# Altium integrated library WE-SPC (rev22d).IntLib: 53 symbols
Pins are listed as number, name and electrical type; pins without a type are passive.

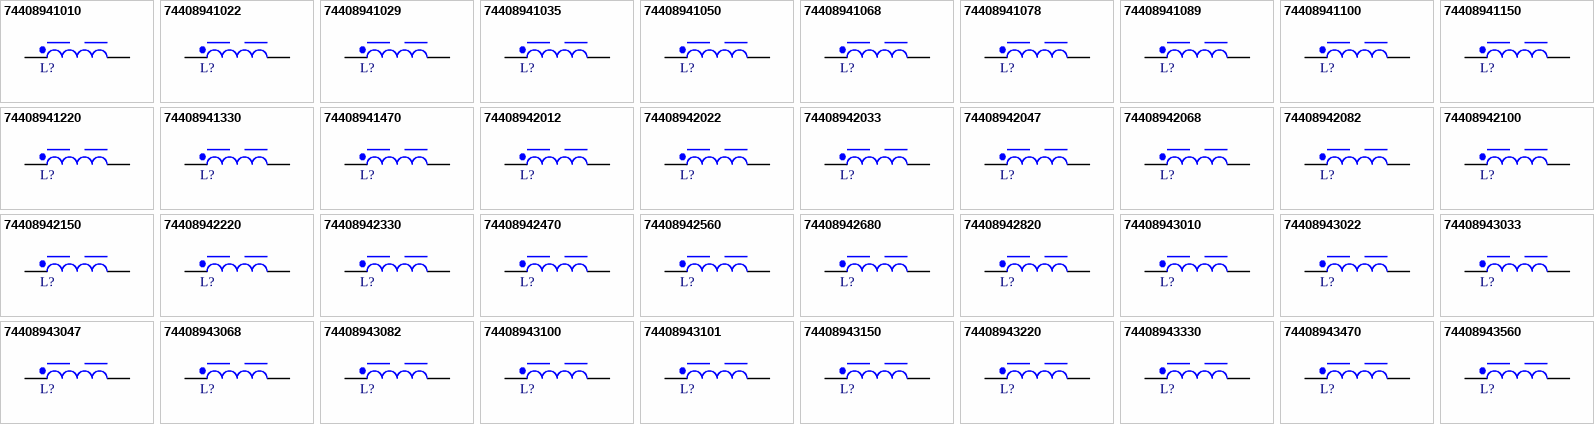
[diagram p0: symbols 74408941010 to 74408943560]

## 74408941010
designator L?, comment 1µH, 3A  (value not drawn)
WE-SPC SMT Power Inductor, size 4818, 1µH, 3A, 0.0295Ω; Manufacturer Part Number: 74408941010; Manufacturer: Wurth Elektronik; Case/Size Code: 4818; DC Resistance: 0.025Ω; Saturation Current: 5.4A; Self Resonant Frequency: 100MHz; Category: Shielded Power Inductors; Match Code: WE-SPC; ComponentLink1Description: Website Link; ComponentLink1URL: https://www.we-online.com/redexpert/article/74408941010?ad; ComponentLink2Description: Datasheet Link; ComponentLink2URL: https://www.we-online.com/redexpert/spec/74408941010?ad; Mount: Surface Mount; Operating Temperature Max: 125°C; Operating Temperature Min: -40°C; Packaging: Tape and Reel; Length: 4.8mm; Width: 4.8mm; Height: 1.8mm; DC Resistance Max: 0.0295Ω; Inductance: 1µH; Rated Current: 3A
footprint WE-SPC_4818
simulation model 4818_74408941010_1u
pins: 1, 2

## 74408941022
designator L?, comment 2.2µH, 2.1A  (value not drawn)
WE-SPC SMT Power Inductor, size 4818, 2.2µH, 2.1A, 0.066Ω; Manufacturer Part Number: 74408941022; Manufacturer: Wurth Elektronik; Case/Size Code: 4818; DC Resistance: 0.056Ω; Saturation Current: 3.6A; Self Resonant Frequency: 65MHz; Category: Shielded Power Inductors; Match Code: WE-SPC; ComponentLink1Description: Website Link; ComponentLink1URL: https://www.we-online.com/redexpert/article/74408941022?ad; ComponentLink2Description: Datasheet Link; ComponentLink2URL: https://www.we-online.com/redexpert/spec/74408941022?ad; Mount: Surface Mount; Operating Temperature Max: 125°C; Operating Temperature Min: -40°C; Packaging: Tape and Reel; Length: 4.8mm; Width: 4.8mm; Height: 1.8mm; DC Resistance Max: 0.066Ω; Inductance: 2.2µH; Rated Current: 2.1A
footprint WE-SPC_4818
simulation model 4818_74408941022_2.2u
pins: 1, 2

## 74408941029
designator L?, comment 2.9µH, 1.55A  (value not drawn)
WE-SPC SMT Power Inductor, size 4818, 2.9µH, 1.55A, 0.101Ω; Manufacturer Part Number: 74408941029; Manufacturer: Wurth Elektronik; Case/Size Code: 4818; DC Resistance: 0.085Ω; Saturation Current: 3A; Self Resonant Frequency: 55MHz; Category: Shielded Power Inductors; Match Code: WE-SPC; ComponentLink1Description: Website Link; ComponentLink1URL: https://www.we-online.com/redexpert/article/74408941029?ad; ComponentLink2Description: Datasheet Link; ComponentLink2URL: https://www.we-online.com/redexpert/spec/74408941029?ad; Mount: Surface Mount; Operating Temperature Max: 125°C; Operating Temperature Min: -40°C; Packaging: Tape and Reel; Length: 4.8mm; Width: 4.8mm; Height: 1.8mm; DC Resistance Max: 0.101Ω; Inductance: 2.9µH; Rated Current: 1.55A
footprint WE-SPC_4818
simulation model 4818_74408941029_2.9u
pins: 1, 2

## 74408941035
designator L?, comment 3.5µH, 1.5A  (value not drawn)
WE-SPC SMT Power Inductor, size 4818, 3.5µH, 1.5A, 0.113Ω; Manufacturer Part Number: 74408941035; Manufacturer: Wurth Elektronik; Case/Size Code: 4818; DC Resistance: 0.095Ω; Saturation Current: 2.8A; Self Resonant Frequency: 52MHz; Category: Shielded Power Inductors; Match Code: WE-SPC; ComponentLink1Description: Website Link; ComponentLink1URL: https://www.we-online.com/redexpert/article/74408941035?ad; ComponentLink2Description: Datasheet Link; ComponentLink2URL: https://www.we-online.com/redexpert/spec/74408941035?ad; Mount: Surface Mount; Operating Temperature Max: 125°C; Operating Temperature Min: -40°C; Packaging: Tape and Reel; Length: 4.8mm; Width: 4.8mm; Height: 1.8mm; DC Resistance Max: 0.113Ω; Inductance: 3.5µH; Rated Current: 1.5A
footprint WE-SPC_4818
simulation model 4818_74408941035_3.5u
pins: 1, 2

## 74408941050
designator L?, comment 5µH, 1.4A  (value not drawn)
WE-SPC SMT Power Inductor, size 4818, 5µH, 1.4A, 0.14Ω; Manufacturer Part Number: 74408941050; Manufacturer: Wurth Elektronik; Case/Size Code: 4818; DC Resistance: 0.117Ω; Saturation Current: 2.5A; Self Resonant Frequency: 43MHz; Category: Shielded Power Inductors; Match Code: WE-SPC; ComponentLink1Description: Website Link; ComponentLink1URL: https://www.we-online.com/redexpert/article/74408941050?ad; ComponentLink2Description: Datasheet Link; ComponentLink2URL: https://www.we-online.com/redexpert/spec/74408941050?ad; Mount: Surface Mount; Operating Temperature Max: 125°C; Operating Temperature Min: -40°C; Packaging: Tape and Reel; Length: 4.8mm; Width: 4.8mm; Height: 1.8mm; DC Resistance Max: 0.14Ω; Inductance: 5µH; Rated Current: 1.4A
footprint WE-SPC_4818
simulation model 4818_74408941050_5u
pins: 1, 2

## 74408941068
designator L?, comment 6.8µH, 1.1A  (value not drawn)
WE-SPC SMT Power Inductor, size 4818, 6.8µH, 1.1A, 0.19Ω; Manufacturer Part Number: 74408941068; Manufacturer: Wurth Elektronik; Case/Size Code: 4818; DC Resistance: 0.16Ω; Saturation Current: 2.1A; Self Resonant Frequency: 40MHz; Category: Shielded Power Inductors; Match Code: WE-SPC; ComponentLink1Description: Website Link; ComponentLink1URL: https://www.we-online.com/redexpert/article/74408941068?ad; ComponentLink2Description: Datasheet Link; ComponentLink2URL: https://www.we-online.com/redexpert/spec/74408941068?ad; Mount: Surface Mount; Operating Temperature Max: 125°C; Operating Temperature Min: -40°C; Packaging: Tape and Reel; Length: 4.8mm; Width: 4.8mm; Height: 1.8mm; DC Resistance Max: 0.19Ω; Inductance: 6.8µH; Rated Current: 1.1A
footprint WE-SPC_4818
simulation model 4818_74408941068_6.8u
pins: 1, 2

## 74408941078
designator L?, comment 7.8µH, 1.05A  (value not drawn)
WE-SPC SMT Power Inductor, size 4818, 7.8µH, 1.05A, 0.23Ω; Manufacturer Part Number: 74408941078; Manufacturer: Wurth Elektronik; Case/Size Code: 4818; DC Resistance: 0.195Ω; Saturation Current: 1.9A; Self Resonant Frequency: 35MHz; Category: Shielded Power Inductors; Match Code: WE-SPC; ComponentLink1Description: Website Link; ComponentLink1URL: https://www.we-online.com/redexpert/article/74408941078?ad; ComponentLink2Description: Datasheet Link; ComponentLink2URL: https://www.we-online.com/redexpert/spec/74408941078?ad; Mount: Surface Mount; Operating Temperature Max: 125°C; Operating Temperature Min: -40°C; Packaging: Tape and Reel; Length: 4.8mm; Width: 4.8mm; Height: 1.8mm; DC Resistance Max: 0.23Ω; Inductance: 7.8µH; Rated Current: 1.05A
footprint WE-SPC_4818
simulation model 4818_74408941078_7.8u
pins: 1, 2

## 74408941089
designator L?, comment 8.9µH, 0.95A  (value not drawn)
WE-SPC SMT Power Inductor, size 4818, 8.9µH, 0.95A, 0.24Ω; Manufacturer Part Number: 74408941089; Manufacturer: Wurth Elektronik; Case/Size Code: 4818; DC Resistance: 0.203Ω; Saturation Current: 1.7A; Self Resonant Frequency: 33MHz; Category: Shielded Power Inductors; Match Code: WE-SPC; ComponentLink1Description: Website Link; ComponentLink1URL: https://www.we-online.com/redexpert/article/74408941089?ad; ComponentLink2Description: Datasheet Link; ComponentLink2URL: https://www.we-online.com/redexpert/spec/74408941089?ad; Mount: Surface Mount; Operating Temperature Max: 125°C; Operating Temperature Min: -40°C; Packaging: Tape and Reel; Length: 4.8mm; Width: 4.8mm; Height: 1.8mm; DC Resistance Max: 0.24Ω; Inductance: 8.9µH; Rated Current: 0.95A
footprint WE-SPC_4818
simulation model 4818_74408941089_8.9u
pins: 1, 2

## 74408941100
designator L?, comment 10µH, 0.9A  (value not drawn)
WE-SPC SMT Power Inductor, size 4818, 10µH, 0.9A, 0.248Ω; Manufacturer Part Number: 74408941100; Manufacturer: Wurth Elektronik; Case/Size Code: 4818; DC Resistance: 0.21Ω; Saturation Current: 1.6A; Self Resonant Frequency: 33MHz; Category: Shielded Power Inductors; Match Code: WE-SPC; ComponentLink1Description: Website Link; ComponentLink1URL: https://www.we-online.com/redexpert/article/74408941100?ad; ComponentLink2Description: Datasheet Link; ComponentLink2URL: https://www.we-online.com/redexpert/spec/74408941100?ad; Mount: Surface Mount; Operating Temperature Max: 125°C; Operating Temperature Min: -40°C; Packaging: Tape and Reel; Length: 4.8mm; Width: 4.8mm; Height: 1.8mm; DC Resistance Max: 0.248Ω; Inductance: 10µH; Rated Current: 0.9A
footprint WE-SPC_4818
simulation model 4818_74408941100_10u
pins: 1, 2

## 74408941150
designator L?, comment 15µH, 0.75A  (value not drawn)
WE-SPC SMT Power Inductor, size 4818, 15µH, 0.75A, 0.43Ω; Manufacturer Part Number: 74408941150; Manufacturer: Wurth Elektronik; Case/Size Code: 4818; DC Resistance: 0.365Ω; Saturation Current: 1.35A; Self Resonant Frequency: 24MHz; Category: Shielded Power Inductors; Match Code: WE-SPC; ComponentLink1Description: Website Link; ComponentLink1URL: https://www.we-online.com/redexpert/article/74408941150?ad; ComponentLink2Description: Datasheet Link; ComponentLink2URL: https://www.we-online.com/redexpert/spec/74408941150?ad; Mount: Surface Mount; Operating Temperature Max: 125°C; Operating Temperature Min: -40°C; Packaging: Tape and Reel; Length: 4.8mm; Width: 4.8mm; Height: 1.8mm; DC Resistance Max: 0.43Ω; Inductance: 15µH; Rated Current: 0.75A
footprint WE-SPC_4818
simulation model 4818_74408941150_15u
pins: 1, 2

## 74408941220
designator L?, comment 22µH, 0.65A  (value not drawn)
WE-SPC SMT Power Inductor, size 4818, 22µH, 0.65A, 0.549Ω; Manufacturer Part Number: 74408941220; Manufacturer: Wurth Elektronik; Case/Size Code: 4818; DC Resistance: 0.465Ω; Saturation Current: 1.1A; Self Resonant Frequency: 20MHz; Category: Shielded Power Inductors; Match Code: WE-SPC; ComponentLink1Description: Website Link; ComponentLink1URL: https://www.we-online.com/redexpert/article/74408941220?ad; ComponentLink2Description: Datasheet Link; ComponentLink2URL: https://www.we-online.com/redexpert/spec/74408941220?ad; Mount: Surface Mount; Operating Temperature Max: 125°C; Operating Temperature Min: -40°C; Packaging: Tape and Reel; Length: 4.8mm; Width: 4.8mm; Height: 1.8mm; DC Resistance Max: 0.549Ω; Inductance: 22µH; Rated Current: 0.65A
footprint WE-SPC_4818
simulation model 4818_74408941220_22u
pins: 1, 2

## 74408941330
designator L?, comment 33µH, 0.45A  (value not drawn)
WE-SPC SMT Power Inductor, size 4818, 33µH, 0.45A, 1.015Ω; Manufacturer Part Number: 74408941330; Manufacturer: Wurth Elektronik; Case/Size Code: 4818; DC Resistance: 0.86Ω; Saturation Current: 0.9A; Self Resonant Frequency: 15MHz; Category: Shielded Power Inductors; Match Code: WE-SPC; ComponentLink1Description: Website Link; ComponentLink1URL: https://www.we-online.com/redexpert/article/74408941330?ad; ComponentLink2Description: Datasheet Link; ComponentLink2URL: https://www.we-online.com/redexpert/spec/74408941330?ad; Mount: Surface Mount; Operating Temperature Max: 125°C; Operating Temperature Min: -40°C; Packaging: Tape and Reel; Length: 4.8mm; Width: 4.8mm; Height: 1.8mm; DC Resistance Max: 1.015Ω; Inductance: 33µH; Rated Current: 0.45A
footprint WE-SPC_4818
simulation model 4818_74408941330_33u
pins: 1, 2

## 74408941470
designator L?, comment 47µH, 0.4A  (value not drawn)
WE-SPC SMT Power Inductor, size 4818, 47µH, 0.4A, 1.133Ω; Manufacturer Part Number: 74408941470; Manufacturer: Wurth Elektronik; Case/Size Code: 4818; DC Resistance: 0.96Ω; Saturation Current: 0.75A; Self Resonant Frequency: 14MHz; Category: Shielded Power Inductors; Match Code: WE-SPC; ComponentLink1Description: Website Link; ComponentLink1URL: https://www.we-online.com/redexpert/article/74408941470?ad; ComponentLink2Description: Datasheet Link; ComponentLink2URL: https://www.we-online.com/redexpert/spec/74408941470?ad; Mount: Surface Mount; Operating Temperature Max: 125°C; Operating Temperature Min: -40°C; Packaging: Tape and Reel; Length: 4.8mm; Width: 4.8mm; Height: 1.8mm; DC Resistance Max: 1.133Ω; Inductance: 47µH; Rated Current: 0.4A
footprint WE-SPC_4818
simulation model 4818_74408941470_47u
pins: 1, 2

## 74408942012
designator L?, comment 1.2µH, 3.2A  (value not drawn)
WE-SPC SMT Power Inductor, size 4828, 1.2µH, 3.2A, 0.026Ω; Manufacturer Part Number: 74408942012; Manufacturer: Wurth Elektronik; Case/Size Code: 4828; DC Resistance: 0.022Ω; Saturation Current: 5.5A; Self Resonant Frequency: 82MHz; Category: Shielded Power Inductors; Match Code: WE-SPC; ComponentLink1Description: Website Link; ComponentLink1URL: https://www.we-online.com/redexpert/article/74408942012?ad; ComponentLink2Description: Datasheet Link; ComponentLink2URL: https://www.we-online.com/redexpert/spec/74408942012?ad; Mount: Surface Mount; Operating Temperature Max: 125°C; Operating Temperature Min: -40°C; Packaging: Tape and Reel; Length: 4.8mm; Width: 4.8mm; Height: 2.8mm; DC Resistance Max: 0.026Ω; Inductance: 1.2µH; Rated Current: 3.2A
footprint WE-SPC_4828
simulation model 4828_74408942012_1.2u
pins: 1, 2

## 74408942022
designator L?, comment 2.2µH, 2.5A  (value not drawn)
WE-SPC SMT Power Inductor, size 4828, 2.2µH, 2.5A, 0.045Ω; Manufacturer Part Number: 74408942022; Manufacturer: Wurth Elektronik; Case/Size Code: 4828; DC Resistance: 0.038Ω; Saturation Current: 4A; Self Resonant Frequency: 54MHz; Category: Shielded Power Inductors; Match Code: WE-SPC; ComponentLink1Description: Website Link; ComponentLink1URL: https://www.we-online.com/redexpert/article/74408942022?ad; ComponentLink2Description: Datasheet Link; ComponentLink2URL: https://www.we-online.com/redexpert/spec/74408942022?ad; Mount: Surface Mount; Operating Temperature Max: 125°C; Operating Temperature Min: -40°C; Packaging: Tape and Reel; Length: 4.8mm; Width: 4.8mm; Height: 2.8mm; DC Resistance Max: 0.045Ω; Inductance: 2.2µH; Rated Current: 2.5A
footprint WE-SPC_4828
simulation model 4828_74408942022_2.2u
pins: 1, 2

## 74408942033
designator L?, comment 3.3µH, 2.1A  (value not drawn)
WE-SPC SMT Power Inductor, size 4828, 3.3µH, 2.1A, 0.057Ω; Manufacturer Part Number: 74408942033; Manufacturer: Wurth Elektronik; Case/Size Code: 4828; DC Resistance: 0.0483Ω; Saturation Current: 3.5A; Self Resonant Frequency: 44MHz; Category: Shielded Power Inductors; Match Code: WE-SPC; ComponentLink1Description: Website Link; ComponentLink1URL: https://www.we-online.com/redexpert/article/74408942033?ad; ComponentLink2Description: Datasheet Link; ComponentLink2URL: https://www.we-online.com/redexpert/spec/74408942033?ad; Mount: Surface Mount; Operating Temperature Max: 125°C; Operating Temperature Min: -40°C; Packaging: Tape and Reel; Length: 4.8mm; Width: 4.8mm; Height: 2.8mm; DC Resistance Max: 0.057Ω; Inductance: 3.3µH; Rated Current: 2.1A
footprint WE-SPC_4828
simulation model 4828_74408942033_3.3u
pins: 1, 2

## 74408942047
designator L?, comment 4.7µH, 1.55A  (value not drawn)
WE-SPC SMT Power Inductor, size 4828, 4.7µH, 1.55A, 0.103Ω; Manufacturer Part Number: 74408942047; Manufacturer: Wurth Elektronik; Case/Size Code: 4828; DC Resistance: 0.0868Ω; Saturation Current: 2.9A; Self Resonant Frequency: 38MHz; Category: Shielded Power Inductors; Match Code: WE-SPC; ComponentLink1Description: Website Link; ComponentLink1URL: https://www.we-online.com/redexpert/article/74408942047?ad; ComponentLink2Description: Datasheet Link; ComponentLink2URL: https://www.we-online.com/redexpert/spec/74408942047?ad; Mount: Surface Mount; Operating Temperature Max: 125°C; Operating Temperature Min: -40°C; Packaging: Tape and Reel; Length: 4.8mm; Width: 4.8mm; Height: 2.8mm; DC Resistance Max: 0.103Ω; Inductance: 4.7µH; Rated Current: 1.55A
footprint WE-SPC_4828
simulation model 4828_74408942047_4.7u
pins: 1, 2

## 74408942068
designator L?, comment 6.8µH, 1.45A  (value not drawn)
WE-SPC SMT Power Inductor, size 4828, 6.8µH, 1.45A, 0.13Ω; Manufacturer Part Number: 74408942068; Manufacturer: Wurth Elektronik; Case/Size Code: 4828; DC Resistance: 0.11Ω; Saturation Current: 2.4A; Self Resonant Frequency: 30MHz; Category: Shielded Power Inductors; Match Code: WE-SPC; ComponentLink1Description: Website Link; ComponentLink1URL: https://www.we-online.com/redexpert/article/74408942068?ad; ComponentLink2Description: Datasheet Link; ComponentLink2URL: https://www.we-online.com/redexpert/spec/74408942068?ad; Mount: Surface Mount; Operating Temperature Max: 125°C; Operating Temperature Min: -40°C; Packaging: Tape and Reel; Length: 4.8mm; Width: 4.8mm; Height: 2.8mm; DC Resistance Max: 0.13Ω; Inductance: 6.8µH; Rated Current: 1.45A
footprint WE-SPC_4828
simulation model 4828_74408942068_6.8u
pins: 1, 2

## 74408942082
designator L?, comment 8.2µH, 1.4A  (value not drawn)
WE-SPC SMT Power Inductor, size 4828, 8.2µH, 1.4A, 0.134Ω; Manufacturer Part Number: 74408942082; Manufacturer: Wurth Elektronik; Case/Size Code: 4828; DC Resistance: 0.113Ω; Saturation Current: 2.2A; Self Resonant Frequency: 26MHz; Category: Shielded Power Inductors; Match Code: WE-SPC; ComponentLink1Description: Website Link; ComponentLink1URL: https://www.we-online.com/redexpert/article/74408942082?ad; ComponentLink2Description: Datasheet Link; ComponentLink2URL: https://www.we-online.com/redexpert/spec/74408942082?ad; Mount: Surface Mount; Operating Temperature Max: 125°C; Operating Temperature Min: -40°C; Packaging: Tape and Reel; Length: 4.8mm; Width: 4.8mm; Height: 2.8mm; DC Resistance Max: 0.134Ω; Inductance: 8.2µH; Rated Current: 1.4A
footprint WE-SPC_4828
simulation model 4828_74408942082_8.2u
pins: 1, 2

## 74408942100
designator L?, comment 10µH, 1.38A  (value not drawn)
WE-SPC SMT Power Inductor, size 4828, 10µH, 1.38A, 0.148Ω; Manufacturer Part Number: 74408942100; Manufacturer: Wurth Elektronik; Case/Size Code: 4828; DC Resistance: 0.125Ω; Saturation Current: 2.1A; Self Resonant Frequency: 25MHz; Category: Shielded Power Inductors; Match Code: WE-SPC; ComponentLink1Description: Website Link; ComponentLink1URL: https://www.we-online.com/redexpert/article/74408942100?ad; ComponentLink2Description: Datasheet Link; ComponentLink2URL: https://www.we-online.com/redexpert/spec/74408942100?ad; Mount: Surface Mount; Operating Temperature Max: 125°C; Operating Temperature Min: -40°C; Packaging: Tape and Reel; Length: 4.8mm; Width: 4.8mm; Height: 2.8mm; DC Resistance Max: 0.148Ω; Inductance: 10µH; Rated Current: 1.38A
footprint WE-SPC_4828
simulation model 4828_74408942100_10u
pins: 1, 2

## 74408942150
designator L?, comment 15µH, 1.1A  (value not drawn)
WE-SPC SMT Power Inductor, size 4828, 15µH, 1.1A, 0.245Ω; Manufacturer Part Number: 74408942150; Manufacturer: Wurth Elektronik; Case/Size Code: 4828; DC Resistance: 0.207Ω; Saturation Current: 1.6A; Self Resonant Frequency: 19MHz; Category: Shielded Power Inductors; Match Code: WE-SPC; ComponentLink1Description: Website Link; ComponentLink1URL: https://www.we-online.com/redexpert/article/74408942150?ad; ComponentLink2Description: Datasheet Link; ComponentLink2URL: https://www.we-online.com/redexpert/spec/74408942150?ad; Mount: Surface Mount; Operating Temperature Max: 125°C; Operating Temperature Min: -40°C; Packaging: Tape and Reel; Length: 4.8mm; Width: 4.8mm; Height: 2.8mm; DC Resistance Max: 0.245Ω; Inductance: 15µH; Rated Current: 1.1A
footprint WE-SPC_4828
simulation model 4828_74408942150_15u
pins: 1, 2

## 74408942220
designator L?, comment 22µH, 0.85A  (value not drawn)
WE-SPC SMT Power Inductor, size 4828, 22µH, 0.85A, 0.354Ω; Manufacturer Part Number: 74408942220; Manufacturer: Wurth Elektronik; Case/Size Code: 4828; DC Resistance: 0.3Ω; Saturation Current: 1.3A; Self Resonant Frequency: 14MHz; Category: Shielded Power Inductors; Match Code: WE-SPC; ComponentLink1Description: Website Link; ComponentLink1URL: https://www.we-online.com/redexpert/article/74408942220?ad; ComponentLink2Description: Datasheet Link; ComponentLink2URL: https://www.we-online.com/redexpert/spec/74408942220?ad; Mount: Surface Mount; Operating Temperature Max: 125°C; Operating Temperature Min: -40°C; Packaging: Tape and Reel; Length: 4.8mm; Width: 4.8mm; Height: 2.8mm; DC Resistance Max: 0.354Ω; Inductance: 22µH; Rated Current: 0.85A
footprint WE-SPC_4828
simulation model 4828_74408942220_22u
pins: 1, 2

## 74408942330
designator L?, comment 33µH, 0.75A  (value not drawn)
WE-SPC SMT Power Inductor, size 4828, 33µH, 0.75A, 0.5Ω; Manufacturer Part Number: 74408942330; Manufacturer: Wurth Elektronik; Case/Size Code: 4828; DC Resistance: 0.424Ω; Saturation Current: 1.1A; Self Resonant Frequency: 12MHz; Category: Shielded Power Inductors; Match Code: WE-SPC; ComponentLink1Description: Website Link; ComponentLink1URL: https://www.we-online.com/redexpert/article/74408942330?ad; ComponentLink2Description: Datasheet Link; ComponentLink2URL: https://www.we-online.com/redexpert/spec/74408942330?ad; Mount: Surface Mount; Operating Temperature Max: 125°C; Operating Temperature Min: -40°C; Packaging: Tape and Reel; Length: 4.8mm; Width: 4.8mm; Height: 2.8mm; DC Resistance Max: 0.5Ω; Inductance: 33µH; Rated Current: 0.75A
footprint WE-SPC_4828
simulation model 4828_74408942330_33u
pins: 1, 2

## 74408942470
designator L?, comment 47µH, 0.66A  (value not drawn)
WE-SPC SMT Power Inductor, size 4828, 47µH, 0.66A, 0.608Ω; Manufacturer Part Number: 74408942470; Manufacturer: Wurth Elektronik; Case/Size Code: 4828; DC Resistance: 0.515Ω; Saturation Current: 1A; Self Resonant Frequency: 10MHz; Category: Shielded Power Inductors; Match Code: WE-SPC; ComponentLink1Description: Website Link; ComponentLink1URL: https://www.we-online.com/redexpert/article/74408942470?ad; ComponentLink2Description: Datasheet Link; ComponentLink2URL: https://www.we-online.com/redexpert/spec/74408942470?ad; Mount: Surface Mount; Operating Temperature Max: 125°C; Operating Temperature Min: -40°C; Packaging: Tape and Reel; Length: 4.8mm; Width: 4.8mm; Height: 2.8mm; DC Resistance Max: 0.608Ω; Inductance: 47µH; Rated Current: 0.66A
footprint WE-SPC_4828
simulation model 4828_74408942470_47u
pins: 1, 2

## 74408942560
designator L?, comment 56µH, 0.51A  (value not drawn)
WE-SPC SMT Power Inductor, size 4828, 56µH, 0.51A, 0.92Ω; Manufacturer Part Number: 74408942560; Manufacturer: Wurth Elektronik; Case/Size Code: 4828; DC Resistance: 0.78Ω; Saturation Current: 0.82A; Self Resonant Frequency: 9.5MHz; Category: Shielded Power Inductors; Match Code: WE-SPC; ComponentLink1Description: Website Link; ComponentLink1URL: https://www.we-online.com/redexpert/article/74408942560?ad; ComponentLink2Description: Datasheet Link; ComponentLink2URL: https://www.we-online.com/redexpert/spec/74408942560?ad; Mount: Surface Mount; Operating Temperature Max: 125°C; Operating Temperature Min: -40°C; Packaging: Tape and Reel; Length: 4.8mm; Width: 4.8mm; Height: 2.8mm; DC Resistance Max: 0.92Ω; Inductance: 56µH; Rated Current: 0.51A
footprint WE-SPC_4828
simulation model 4828_74408942560_56u
pins: 1, 2

## 74408942680
designator L?, comment 68µH, 0.49A  (value not drawn)
WE-SPC SMT Power Inductor, size 4828, 68µH, 0.49A, 1.02Ω; Manufacturer Part Number: 74408942680; Manufacturer: Wurth Elektronik; Case/Size Code: 4828; DC Resistance: 0.864Ω; Saturation Current: 0.75A; Self Resonant Frequency: 8MHz; Category: Shielded Power Inductors; Match Code: WE-SPC; ComponentLink1Description: Website Link; ComponentLink1URL: https://www.we-online.com/redexpert/article/74408942680?ad; ComponentLink2Description: Datasheet Link; ComponentLink2URL: https://www.we-online.com/redexpert/spec/74408942680?ad; Mount: Surface Mount; Operating Temperature Max: 125°C; Operating Temperature Min: -40°C; Packaging: Tape and Reel; Length: 4.8mm; Width: 4.8mm; Height: 2.8mm; DC Resistance Max: 1.02Ω; Inductance: 68µH; Rated Current: 0.49A
footprint WE-SPC_4828
simulation model 4828_74408942680_68u
pins: 1, 2

## 74408942820
designator L?, comment 82µH, 0.46A  (value not drawn)
WE-SPC SMT Power Inductor, size 4828, 82µH, 0.46A, 1.11Ω; Manufacturer Part Number: 74408942820; Manufacturer: Wurth Elektronik; Case/Size Code: 4828; DC Resistance: 0.94Ω; Saturation Current: 0.68A; Self Resonant Frequency: 7MHz; Category: Shielded Power Inductors; Match Code: WE-SPC; ComponentLink1Description: Website Link; ComponentLink1URL: https://www.we-online.com/redexpert/article/74408942820?ad; ComponentLink2Description: Datasheet Link; ComponentLink2URL: https://www.we-online.com/redexpert/spec/74408942820?ad; Mount: Surface Mount; Operating Temperature Max: 125°C; Operating Temperature Min: -40°C; Packaging: Tape and Reel; Length: 4.8mm; Width: 4.8mm; Height: 2.8mm; DC Resistance Max: 1.11Ω; Inductance: 82µH; Rated Current: 0.46A
footprint WE-SPC_4828
simulation model 4828_74408942820_82u
pins: 1, 2

## 74408943010
designator L?, comment 1µH, 3.3A  (value not drawn)
WE-SPC SMT Power Inductor, size 4838, 1µH, 3.3A, 0.022Ω; Manufacturer Part Number: 74408943010; Manufacturer: Wurth Elektronik; Case/Size Code: 4838; DC Resistance: 0.019Ω; Saturation Current: 6.5A; Self Resonant Frequency: 90MHz; Category: Shielded Power Inductors; Match Code: WE-SPC; ComponentLink1Description: Website Link; ComponentLink1URL: https://www.we-online.com/redexpert/article/74408943010?ad; ComponentLink2Description: Datasheet Link; ComponentLink2URL: https://www.we-online.com/redexpert/spec/74408943010?ad; Mount: Surface Mount; Operating Temperature Max: 125°C; Operating Temperature Min: -40°C; Packaging: Tape and Reel; Length: 4.8mm; Width: 4.8mm; Height: 3.8mm; DC Resistance Max: 0.022Ω; Inductance: 1µH; Rated Current: 3.3A
footprint WE-SPC_4838
simulation model 4838_74408943010_1u
pins: 1, 2

## 74408943022
designator L?, comment 2.2µH, 3A  (value not drawn)
WE-SPC SMT Power Inductor, size 4838, 2.2µH, 3A, 0.03Ω; Manufacturer Part Number: 74408943022; Manufacturer: Wurth Elektronik; Case/Size Code: 4838; DC Resistance: 0.026Ω; Saturation Current: 4.6A; Self Resonant Frequency: 85MHz; Category: Shielded Power Inductors; Match Code: WE-SPC; ComponentLink1Description: Website Link; ComponentLink1URL: https://www.we-online.com/redexpert/article/74408943022?ad; ComponentLink2Description: Datasheet Link; ComponentLink2URL: https://www.we-online.com/redexpert/spec/74408943022?ad; Mount: Surface Mount; Operating Temperature Max: 125°C; Operating Temperature Min: -40°C; Packaging: Tape and Reel; Length: 4.8mm; Width: 4.8mm; Height: 3.8mm; DC Resistance Max: 0.03Ω; Inductance: 2.2µH; Rated Current: 3A
footprint WE-SPC_4838
simulation model 4838_74408943022_2.2u
pins: 1, 2

## 74408943033
designator L?, comment 3.3µH, 2.6A  (value not drawn)
WE-SPC SMT Power Inductor, size 4838, 3.3µH, 2.6A, 0.036Ω; Manufacturer Part Number: 74408943033; Manufacturer: Wurth Elektronik; Case/Size Code: 4838; DC Resistance: 0.031Ω; Saturation Current: 3.6A; Self Resonant Frequency: 64MHz; Category: Shielded Power Inductors; Match Code: WE-SPC; ComponentLink1Description: Website Link; ComponentLink1URL: https://www.we-online.com/redexpert/article/74408943033?ad; ComponentLink2Description: Datasheet Link; ComponentLink2URL: https://www.we-online.com/redexpert/spec/74408943033?ad; Mount: Surface Mount; Operating Temperature Max: 125°C; Operating Temperature Min: -40°C; Packaging: Tape and Reel; Length: 4.8mm; Width: 4.8mm; Height: 3.8mm; DC Resistance Max: 0.036Ω; Inductance: 3.3µH; Rated Current: 2.6A
footprint WE-SPC_4838
simulation model 4838_74408943033_3.3u
pins: 1, 2

## 74408943047
designator L?, comment 4.7µH, 2.2A  (value not drawn)
WE-SPC SMT Power Inductor, size 4838, 4.7µH, 2.2A, 0.052Ω; Manufacturer Part Number: 74408943047; Manufacturer: Wurth Elektronik; Case/Size Code: 4838; DC Resistance: 0.045Ω; Saturation Current: 3.2A; Self Resonant Frequency: 44MHz; Category: Shielded Power Inductors; Match Code: WE-SPC; ComponentLink1Description: Website Link; ComponentLink1URL: https://www.we-online.com/redexpert/article/74408943047?ad; ComponentLink2Description: Datasheet Link; ComponentLink2URL: https://www.we-online.com/redexpert/spec/74408943047?ad; Mount: Surface Mount; Operating Temperature Max: 125°C; Operating Temperature Min: -40°C; Packaging: Tape and Reel; Length: 4.8mm; Width: 4.8mm; Height: 3.8mm; DC Resistance Max: 0.052Ω; Inductance: 4.7µH; Rated Current: 2.2A
footprint WE-SPC_4838
simulation model 4838_74408943047_4.7u
pins: 1, 2

## 74408943068
designator L?, comment 6.8µH, 2A  (value not drawn)
WE-SPC SMT Power Inductor, size 4838, 6.8µH, 2A, 0.059Ω; Manufacturer Part Number: 74408943068; Manufacturer: Wurth Elektronik; Case/Size Code: 4838; DC Resistance: 0.051Ω; Saturation Current: 2.7A; Self Resonant Frequency: 34MHz; Category: Shielded Power Inductors; Match Code: WE-SPC; ComponentLink1Description: Website Link; ComponentLink1URL: https://www.we-online.com/redexpert/article/74408943068?ad; ComponentLink2Description: Datasheet Link; ComponentLink2URL: https://www.we-online.com/redexpert/spec/74408943068?ad; Mount: Surface Mount; Operating Temperature Max: 125°C; Operating Temperature Min: -40°C; Packaging: Tape and Reel; Length: 4.8mm; Width: 4.8mm; Height: 3.8mm; DC Resistance Max: 0.059Ω; Inductance: 6.8µH; Rated Current: 2A
footprint WE-SPC_4838
simulation model 4838_74408943068_6.8u
pins: 1, 2

## 74408943082
designator L?, comment 8.2µH, 1.75A  (value not drawn)
WE-SPC SMT Power Inductor, size 4838, 8.2µH, 1.75A, 0.081Ω; Manufacturer Part Number: 74408943082; Manufacturer: Wurth Elektronik; Case/Size Code: 4838; DC Resistance: 0.07Ω; Saturation Current: 2.2A; Self Resonant Frequency: 32MHz; Category: Shielded Power Inductors; Match Code: WE-SPC; ComponentLink1Description: Website Link; ComponentLink1URL: https://www.we-online.com/redexpert/article/74408943082?ad; ComponentLink2Description: Datasheet Link; ComponentLink2URL: https://www.we-online.com/redexpert/spec/74408943082?ad; Mount: Surface Mount; Operating Temperature Max: 125°C; Operating Temperature Min: -40°C; Packaging: Tape and Reel; Length: 4.8mm; Width: 4.8mm; Height: 3.8mm; DC Resistance Max: 0.081Ω; Inductance: 8.2µH; Rated Current: 1.75A
footprint WE-SPC_4838
simulation model 4838_74408943082_8.2u
pins: 1, 2

## 74408943100
designator L?, comment 10µH, 1.65A  (value not drawn)
WE-SPC SMT Power Inductor, size 4838, 10µH, 1.65A, 0.094Ω; Manufacturer Part Number: 74408943100; Manufacturer: Wurth Elektronik; Case/Size Code: 4838; DC Resistance: 0.082Ω; Saturation Current: 2.1A; Self Resonant Frequency: 28MHz; Category: Shielded Power Inductors; Match Code: WE-SPC; ComponentLink1Description: Website Link; ComponentLink1URL: https://www.we-online.com/redexpert/article/74408943100?ad; ComponentLink2Description: Datasheet Link; ComponentLink2URL: https://www.we-online.com/redexpert/spec/74408943100?ad; Mount: Surface Mount; Operating Temperature Max: 125°C; Operating Temperature Min: -40°C; Packaging: Tape and Reel; Length: 4.8mm; Width: 4.8mm; Height: 3.8mm; DC Resistance Max: 0.094Ω; Inductance: 10µH; Rated Current: 1.65A
footprint WE-SPC_4838
simulation model 4838_74408943100_10u
pins: 1, 2

## 74408943101
designator L?, comment 100µH, 0.52A  (value not drawn)
WE-SPC SMT Power Inductor, size 4838, 100µH, 0.52A, 0.85Ω; Manufacturer Part Number: 74408943101; Manufacturer: Wurth Elektronik; Case/Size Code: 4838; DC Resistance: 0.77Ω; Saturation Current: 0.68A; Self Resonant Frequency: 7.8MHz; Category: Shielded Power Inductors; Match Code: WE-SPC; ComponentLink1Description: Website Link; ComponentLink1URL: https://www.we-online.com/redexpert/article/74408943101?ad; ComponentLink2Description: Datasheet Link; ComponentLink2URL: https://www.we-online.com/redexpert/spec/74408943101?ad; Mount: Surface Mount; Operating Temperature Max: 125°C; Operating Temperature Min: -40°C; Packaging: Tape and Reel; Length: 4.8mm; Width: 4.8mm; Height: 3.8mm; DC Resistance Max: 0.85Ω; Inductance: 100µH; Rated Current: 0.52A
footprint WE-SPC_4838
simulation model 4838_74408943101_100u
pins: 1, 2

## 74408943150
designator L?, comment 15µH, 1.4A  (value not drawn)
WE-SPC SMT Power Inductor, size 4838, 15µH, 1.4A, 0.136Ω; Manufacturer Part Number: 74408943150; Manufacturer: Wurth Elektronik; Case/Size Code: 4838; DC Resistance: 0.118Ω; Saturation Current: 1.7A; Self Resonant Frequency: 22MHz; Category: Shielded Power Inductors; Match Code: WE-SPC; ComponentLink1Description: Website Link; ComponentLink1URL: https://www.we-online.com/redexpert/article/74408943150?ad; ComponentLink2Description: Datasheet Link; ComponentLink2URL: https://www.we-online.com/redexpert/spec/74408943150?ad; Mount: Surface Mount; Operating Temperature Max: 125°C; Operating Temperature Min: -40°C; Packaging: Tape and Reel; Length: 4.8mm; Width: 4.8mm; Height: 3.8mm; DC Resistance Max: 0.136Ω; Inductance: 15µH; Rated Current: 1.4A
footprint WE-SPC_4838
simulation model 4838_74408943150_15u
pins: 1, 2

## 74408943220
designator L?, comment 22µH, 1.1A  (value not drawn)
WE-SPC SMT Power Inductor, size 4838, 22µH, 1.1A, 0.213Ω; Manufacturer Part Number: 74408943220; Manufacturer: Wurth Elektronik; Case/Size Code: 4838; DC Resistance: 0.185Ω; Saturation Current: 1.4A; Self Resonant Frequency: 19MHz; Category: Shielded Power Inductors; Match Code: WE-SPC; ComponentLink1Description: Website Link; ComponentLink1URL: https://www.we-online.com/redexpert/article/74408943220?ad; ComponentLink2Description: Datasheet Link; ComponentLink2URL: https://www.we-online.com/redexpert/spec/74408943220?ad; Mount: Surface Mount; Operating Temperature Max: 125°C; Operating Temperature Min: -40°C; Packaging: Tape and Reel; Length: 4.8mm; Width: 4.8mm; Height: 3.8mm; DC Resistance Max: 0.213Ω; Inductance: 22µH; Rated Current: 1.1A
footprint WE-SPC_4838
simulation model 4838_74408943220_22u
pins: 1, 2

## 74408943330
designator L?, comment 33µH, 0.9A  (value not drawn)
WE-SPC SMT Power Inductor, size 4838, 33µH, 0.9A, 0.298Ω; Manufacturer Part Number: 74408943330; Manufacturer: Wurth Elektronik; Case/Size Code: 4838; DC Resistance: 0.259Ω; Saturation Current: 1.2A; Self Resonant Frequency: 14MHz; Category: Shielded Power Inductors; Match Code: WE-SPC; ComponentLink1Description: Website Link; ComponentLink1URL: https://www.we-online.com/redexpert/article/74408943330?ad; ComponentLink2Description: Datasheet Link; ComponentLink2URL: https://www.we-online.com/redexpert/spec/74408943330?ad; Mount: Surface Mount; Operating Temperature Max: 125°C; Operating Temperature Min: -40°C; Packaging: Tape and Reel; Length: 4.8mm; Width: 4.8mm; Height: 3.8mm; DC Resistance Max: 0.298Ω; Inductance: 33µH; Rated Current: 0.9A
footprint WE-SPC_4838
simulation model 4838_74408943330_33u
pins: 1, 2

## 74408943470
designator L?, comment 47µH, 0.8A  (value not drawn)
WE-SPC SMT Power Inductor, size 4838, 47µH, 0.8A, 0.351Ω; Manufacturer Part Number: 74408943470; Manufacturer: Wurth Elektronik; Case/Size Code: 4838; DC Resistance: 0.305Ω; Saturation Current: 1.05A; Self Resonant Frequency: 12MHz; Category: Shielded Power Inductors; Match Code: WE-SPC; ComponentLink1Description: Website Link; ComponentLink1URL: https://www.we-online.com/redexpert/article/74408943470?ad; ComponentLink2Description: Datasheet Link; ComponentLink2URL: https://www.we-online.com/redexpert/spec/74408943470?ad; Mount: Surface Mount; Operating Temperature Max: 125°C; Operating Temperature Min: -40°C; Packaging: Tape and Reel; Length: 4.8mm; Width: 4.8mm; Height: 3.8mm; DC Resistance Max: 0.351Ω; Inductance: 47µH; Rated Current: 0.8A
footprint WE-SPC_4838
simulation model 4838_74408943470_47u
pins: 1, 2

## 74408943560
designator L?, comment 56µH, 0.7A  (value not drawn)
WE-SPC SMT Power Inductor, size 4838, 56µH, 0.7A, 0.481Ω; Manufacturer Part Number: 74408943560; Manufacturer: Wurth Elektronik; Case/Size Code: 4838; DC Resistance: 0.418Ω; Saturation Current: 0.9A; Self Resonant Frequency: 11MHz; Category: Shielded Power Inductors; Match Code: WE-SPC; ComponentLink1Description: Website Link; ComponentLink1URL: https://www.we-online.com/redexpert/article/74408943560?ad; ComponentLink2Description: Datasheet Link; ComponentLink2URL: https://www.we-online.com/redexpert/spec/74408943560?ad; Mount: Surface Mount; Operating Temperature Max: 125°C; Operating Temperature Min: -40°C; Packaging: Tape and Reel; Length: 4.8mm; Width: 4.8mm; Height: 3.8mm; DC Resistance Max: 0.481Ω; Inductance: 56µH; Rated Current: 0.7A
footprint WE-SPC_4838
simulation model 4838_74408943560_56u
pins: 1, 2

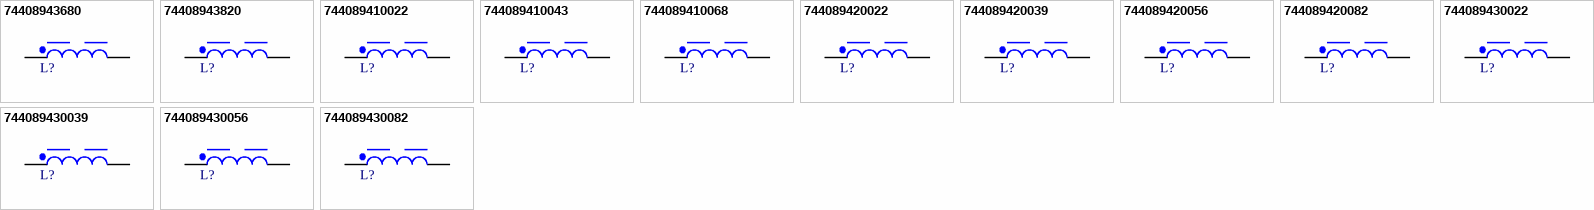
[diagram p1: symbols 74408943680 to 744089430082]

## 74408943680
designator L?, comment 68µH, 0.6A  (value not drawn)
WE-SPC SMT Power Inductor, size 4838, 68µH, 0.6A, 0.7Ω; Manufacturer Part Number: 74408943680; Manufacturer: Wurth Elektronik; Case/Size Code: 4838; DC Resistance: 0.608Ω; Saturation Current: 0.85A; Self Resonant Frequency: 9.5MHz; Category: Shielded Power Inductors; Match Code: WE-SPC; ComponentLink1Description: Website Link; ComponentLink1URL: https://www.we-online.com/redexpert/article/74408943680?ad; ComponentLink2Description: Datasheet Link; ComponentLink2URL: https://www.we-online.com/redexpert/spec/74408943680?ad; Mount: Surface Mount; Operating Temperature Max: 125°C; Operating Temperature Min: -40°C; Packaging: Tape and Reel; Length: 4.8mm; Width: 4.8mm; Height: 3.8mm; DC Resistance Max: 0.7Ω; Inductance: 68µH; Rated Current: 0.6A
footprint WE-SPC_4838
simulation model 4838_74408943680_68u
pins: 1, 2

## 74408943820
designator L?, comment 82µH, 0.58A  (value not drawn)
WE-SPC SMT Power Inductor, size 4838, 82µH, 0.58A, 0.75Ω; Manufacturer Part Number: 74408943820; Manufacturer: Wurth Elektronik; Case/Size Code: 4838; DC Resistance: 0.689Ω; Saturation Current: 0.8A; Self Resonant Frequency: 8MHz; Category: Shielded Power Inductors; Match Code: WE-SPC; ComponentLink1Description: Website Link; ComponentLink1URL: https://www.we-online.com/redexpert/article/74408943820?ad; ComponentLink2Description: Datasheet Link; ComponentLink2URL: https://www.we-online.com/redexpert/spec/74408943820?ad; Mount: Surface Mount; Operating Temperature Max: 125°C; Operating Temperature Min: -40°C; Packaging: Tape and Reel; Length: 4.8mm; Width: 4.8mm; Height: 3.8mm; DC Resistance Max: 0.75Ω; Inductance: 82µH; Rated Current: 0.58A
footprint WE-SPC_4838
simulation model 4838_74408943820_82u
pins: 1, 2

## 744089410022
designator L?, comment 0.22µH, 4.5A  (value not drawn)
WE-SPC SMT Power Inductor, size 4818, 0.22µH, 4.5A, 0.015Ω; Manufacturer Part Number: 744089410022; Manufacturer: Wurth Elektronik; Case/Size Code: 4818; DC Resistance: 0.0127Ω; Saturation Current: 9.5A; Self Resonant Frequency: 230MHz; Category: Shielded Power Inductors; Match Code: WE-SPC; ComponentLink1Description: Website Link; ComponentLink1URL: https://www.we-online.com/redexpert/article/744089410022?ad; ComponentLink2Description: Datasheet Link; ComponentLink2URL: https://www.we-online.com/redexpert/spec/744089410022?ad; Mount: Surface Mount; Operating Temperature Max: 125°C; Operating Temperature Min: -40°C; Packaging: Tape and Reel; Length: 4.8mm; Width: 4.8mm; Height: 1.8mm; DC Resistance Max: 0.015Ω; Inductance: 0.22µH; Rated Current: 4.5A
footprint WE-SPC_4818
simulation model 4818_744089410022_0.22u
pins: 1, 2

## 744089410043
designator L?, comment 0.43µH, 3.8A  (value not drawn)
WE-SPC SMT Power Inductor, size 4818, 0.43µH, 3.8A, 0.0176Ω; Manufacturer Part Number: 744089410043; Manufacturer: Wurth Elektronik; Case/Size Code: 4818; DC Resistance: 0.015Ω; Saturation Current: 8A; Self Resonant Frequency: 160MHz; Category: Shielded Power Inductors; Match Code: WE-SPC; ComponentLink1Description: Website Link; ComponentLink1URL: https://www.we-online.com/redexpert/article/744089410043?ad; ComponentLink2Description: Datasheet Link; ComponentLink2URL: https://www.we-online.com/redexpert/spec/744089410043?ad; Mount: Surface Mount; Operating Temperature Max: 125°C; Operating Temperature Min: -40°C; Packaging: Tape and Reel; Length: 4.8mm; Width: 4.8mm; Height: 1.8mm; DC Resistance Max: 0.0176Ω; Inductance: 0.43µH; Rated Current: 3.8A
footprint WE-SPC_4818
simulation model 4818_744089410043_0.43u
pins: 1, 2

## 744089410068
designator L?, comment 0.68µH, 3.4A  (value not drawn)
WE-SPC SMT Power Inductor, size 4818, 0.68µH, 3.4A, 0.0221Ω; Manufacturer Part Number: 744089410068; Manufacturer: Wurth Elektronik; Case/Size Code: 4818; DC Resistance: 0.0187Ω; Saturation Current: 6.5A; Self Resonant Frequency: 120MHz; Category: Shielded Power Inductors; Match Code: WE-SPC; ComponentLink1Description: Website Link; ComponentLink1URL: https://www.we-online.com/redexpert/article/744089410068?ad; ComponentLink2Description: Datasheet Link; ComponentLink2URL: https://www.we-online.com/redexpert/spec/744089410068?ad; Mount: Surface Mount; Operating Temperature Max: 125°C; Operating Temperature Min: -40°C; Packaging: Tape and Reel; Length: 4.8mm; Width: 4.8mm; Height: 1.8mm; DC Resistance Max: 0.0221Ω; Inductance: 0.68µH; Rated Current: 3.4A
footprint WE-SPC_4818
simulation model 4818_744089410068_0.68u
pins: 1, 2

## 744089420022
designator L?, comment 0.22µH, 5.3A  (value not drawn)
WE-SPC SMT Power Inductor, size 4828, 0.22µH, 5.3A, 0.0144Ω; Manufacturer Part Number: 744089420022; Manufacturer: Wurth Elektronik; Case/Size Code: 4828; DC Resistance: 0.0122Ω; Saturation Current: 13.5A; Self Resonant Frequency: 220MHz; Category: Shielded Power Inductors; Match Code: WE-SPC; ComponentLink1Description: Website Link; ComponentLink1URL: https://www.we-online.com/redexpert/article/744089420022?ad; ComponentLink2Description: Datasheet Link; ComponentLink2URL: https://www.we-online.com/redexpert/spec/744089420022?ad; Mount: Surface Mount; Operating Temperature Max: 125°C; Operating Temperature Min: -40°C; Packaging: Tape and Reel; Length: 4.8mm; Width: 4.8mm; Height: 2.8mm; DC Resistance Max: 0.0144Ω; Inductance: 0.22µH; Rated Current: 5.3A
footprint WE-SPC_4828
simulation model 4828_744089420022_0.22u
pins: 1, 2

## 744089420039
designator L?, comment 0.39µH, 4.2A  (value not drawn)
WE-SPC SMT Power Inductor, size 4828, 0.39µH, 4.2A, 0.0177Ω; Manufacturer Part Number: 744089420039; Manufacturer: Wurth Elektronik; Case/Size Code: 4828; DC Resistance: 0.015Ω; Saturation Current: 10.3A; Self Resonant Frequency: 160MHz; Category: Shielded Power Inductors; Match Code: WE-SPC; ComponentLink1Description: Website Link; ComponentLink1URL: https://www.we-online.com/redexpert/article/744089420039?ad; ComponentLink2Description: Datasheet Link; ComponentLink2URL: https://www.we-online.com/redexpert/spec/744089420039?ad; Mount: Surface Mount; Operating Temperature Max: 125°C; Operating Temperature Min: -40°C; Packaging: Tape and Reel; Length: 4.8mm; Width: 4.8mm; Height: 2.8mm; DC Resistance Max: 0.0177Ω; Inductance: 0.39µH; Rated Current: 4.2A
footprint WE-SPC_4828
simulation model 4828_744089420039_0.39u
pins: 1, 2

## 744089420056
designator L?, comment 0.56µH, 4.1A  (value not drawn)
WE-SPC SMT Power Inductor, size 4828, 0.56µH, 4.1A, 0.0184Ω; Manufacturer Part Number: 744089420056; Manufacturer: Wurth Elektronik; Case/Size Code: 4828; DC Resistance: 0.0156Ω; Saturation Current: 8.3A; Self Resonant Frequency: 120MHz; Category: Shielded Power Inductors; Match Code: WE-SPC; ComponentLink1Description: Website Link; ComponentLink1URL: https://www.we-online.com/redexpert/article/744089420056?ad; ComponentLink2Description: Datasheet Link; ComponentLink2URL: https://www.we-online.com/redexpert/spec/744089420056?ad; Mount: Surface Mount; Operating Temperature Max: 125°C; Operating Temperature Min: -40°C; Packaging: Tape and Reel; Length: 4.8mm; Width: 4.8mm; Height: 2.8mm; DC Resistance Max: 0.0184Ω; Inductance: 0.56µH; Rated Current: 4.1A
footprint WE-SPC_4828
simulation model 4828_744089420056_0.56u
pins: 1, 2

## 744089420082
designator L?, comment 0.82µH, 3.5A  (value not drawn)
WE-SPC SMT Power Inductor, size 4828, 0.82µH, 3.5A, 0.0248Ω; Manufacturer Part Number: 744089420082; Manufacturer: Wurth Elektronik; Case/Size Code: 4828; DC Resistance: 0.021Ω; Saturation Current: 6.7A; Self Resonant Frequency: 100MHz; Category: Shielded Power Inductors; Match Code: WE-SPC; ComponentLink1Description: Website Link; ComponentLink1URL: https://www.we-online.com/redexpert/article/744089420082?ad; ComponentLink2Description: Datasheet Link; ComponentLink2URL: https://www.we-online.com/redexpert/spec/744089420082?ad; Mount: Surface Mount; Operating Temperature Max: 125°C; Operating Temperature Min: -40°C; Packaging: Tape and Reel; Length: 4.8mm; Width: 4.8mm; Height: 2.8mm; DC Resistance Max: 0.0248Ω; Inductance: 0.82µH; Rated Current: 3.5A
footprint WE-SPC_4828
simulation model 4828_744089420082_0.82u
pins: 1, 2

## 744089430022
designator L?, comment 0.22µH, 5A  (value not drawn)
WE-SPC SMT Power Inductor, size 4838, 0.22µH, 5A, 0.014Ω; Manufacturer Part Number: 744089430022; Manufacturer: Wurth Elektronik; Case/Size Code: 4838; DC Resistance: 0.012Ω; Saturation Current: 13A; Self Resonant Frequency: 250MHz; Category: Shielded Power Inductors; Match Code: WE-SPC; ComponentLink1Description: Website Link; ComponentLink1URL: https://www.we-online.com/redexpert/article/744089430022?ad; ComponentLink2Description: Datasheet Link; ComponentLink2URL: https://www.we-online.com/redexpert/spec/744089430022?ad; Mount: Surface Mount; Operating Temperature Max: 125°C; Operating Temperature Min: -40°C; Packaging: Tape and Reel; Length: 4.8mm; Width: 4.8mm; Height: 3.8mm; DC Resistance Max: 0.014Ω; Inductance: 0.22µH; Rated Current: 5A
footprint WE-SPC_4838
simulation model 4838_744089430022_0.22u
pins: 1, 2

## 744089430039
designator L?, comment 0.39µH, 4.2A  (value not drawn)
WE-SPC SMT Power Inductor, size 4838, 0.39µH, 4.2A, 0.016Ω; Manufacturer Part Number: 744089430039; Manufacturer: Wurth Elektronik; Case/Size Code: 4838; DC Resistance: 0.0135Ω; Saturation Current: 9.3A; Self Resonant Frequency: 160MHz; Category: Shielded Power Inductors; Match Code: WE-SPC; ComponentLink1Description: Website Link; ComponentLink1URL: https://www.we-online.com/redexpert/article/744089430039?ad; ComponentLink2Description: Datasheet Link; ComponentLink2URL: https://www.we-online.com/redexpert/spec/744089430039?ad; Mount: Surface Mount; Operating Temperature Max: 125°C; Operating Temperature Min: -40°C; Packaging: Tape and Reel; Length: 4.8mm; Width: 4.8mm; Height: 3.8mm; DC Resistance Max: 0.016Ω; Inductance: 0.39µH; Rated Current: 4.2A
footprint WE-SPC_4838
simulation model 4838_744089430039_0.39u
pins: 1, 2

## 744089430056
designator L?, comment 0.56µH, 3.8A  (value not drawn)
WE-SPC SMT Power Inductor, size 4838, 0.56µH, 3.8A, 0.017Ω; Manufacturer Part Number: 744089430056; Manufacturer: Wurth Elektronik; Case/Size Code: 4838; DC Resistance: 0.015Ω; Saturation Current: 8.1A; Self Resonant Frequency: 130MHz; Category: Shielded Power Inductors; Match Code: WE-SPC; ComponentLink1Description: Website Link; ComponentLink1URL: https://www.we-online.com/redexpert/article/744089430056?ad; ComponentLink2Description: Datasheet Link; ComponentLink2URL: https://www.we-online.com/redexpert/spec/744089430056?ad; Mount: Surface Mount; Operating Temperature Max: 125°C; Operating Temperature Min: -40°C; Packaging: Tape and Reel; Length: 4.8mm; Width: 4.8mm; Height: 3.8mm; DC Resistance Max: 0.017Ω; Inductance: 0.56µH; Rated Current: 3.8A
footprint WE-SPC_4838
simulation model 4838_744089430056_0.56u
pins: 1, 2

## 744089430082
designator L?, comment 0.82µH, 3.4A  (value not drawn)
WE-SPC SMT Power Inductor, size 4838, 0.82µH, 3.4A, 0.02Ω; Manufacturer Part Number: 744089430082; Manufacturer: Wurth Elektronik; Case/Size Code: 4838; DC Resistance: 0.017Ω; Saturation Current: 7.1A; Self Resonant Frequency: 108MHz; Category: Shielded Power Inductors; Match Code: WE-SPC; ComponentLink1Description: Website Link; ComponentLink1URL: https://www.we-online.com/redexpert/article/744089430082?ad; ComponentLink2Description: Datasheet Link; ComponentLink2URL: https://www.we-online.com/redexpert/spec/744089430082?ad; Mount: Surface Mount; Operating Temperature Max: 125°C; Operating Temperature Min: -40°C; Packaging: Tape and Reel; Length: 4.8mm; Width: 4.8mm; Height: 3.8mm; DC Resistance Max: 0.02Ω; Inductance: 0.82µH; Rated Current: 3.4A
footprint WE-SPC_4838
simulation model 4838_744089430082_0.82u
pins: 1, 2